# EAGLE library part CD4511 (library my_devices)
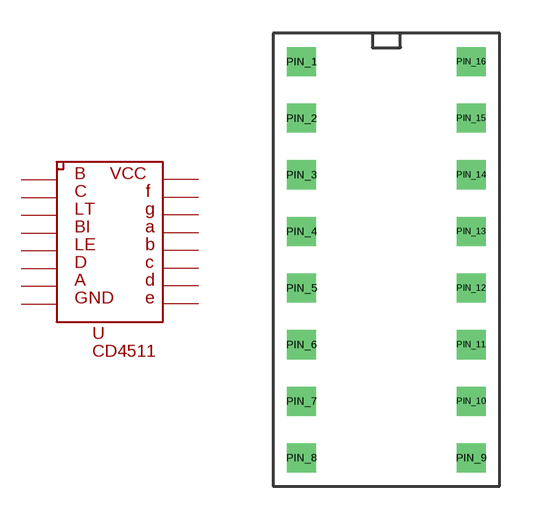
[diagram p25: symbol with the pads of PDIP16; footprint PDIP16]

Designator prefix U

## CD4511  [PDIP16]
PIN_1  B  in
PIN_2  C  in
PIN_3  LT  in
PIN_4  BI  in
PIN_5  LE  in
PIN_6  D  in
PIN_7  A  in
PIN_8  GND  pwr
PIN_9  OUT_E  out
PIN_10  OUT_D  out
PIN_11  OUT_C  out
PIN_12  OUT_B  out
PIN_13  OUT_A  out
PIN_14  OUT_G  out
PIN_15  OUT_F  out
PIN_16  VCC  pwr

## Footprint PDIP16 (pad centres in mm)
drill 0.8 square: PIN_1 -3.81,10.16; PIN_2 -3.81,7.62; PIN_3 -3.81,5.08; PIN_4 -3.81,2.54; PIN_5 -3.81,0; PIN_6 -3.81,-2.54; PIN_7 -3.81,-5.08; PIN_8 -3.81,-7.62; PIN_9 3.81,-7.62; PIN_10 3.81,-5.08; PIN_11 3.81,-2.54; PIN_12 3.81,0; PIN_13 3.81,2.54; PIN_14 3.81,5.08; PIN_15 3.81,7.62; PIN_16 3.81,10.16